# Altium integrated library Motorola Microprocessor 16-Bit.IntLib: 21 symbols
Pins are listed as number, name and electrical type; pins without a type are passive.

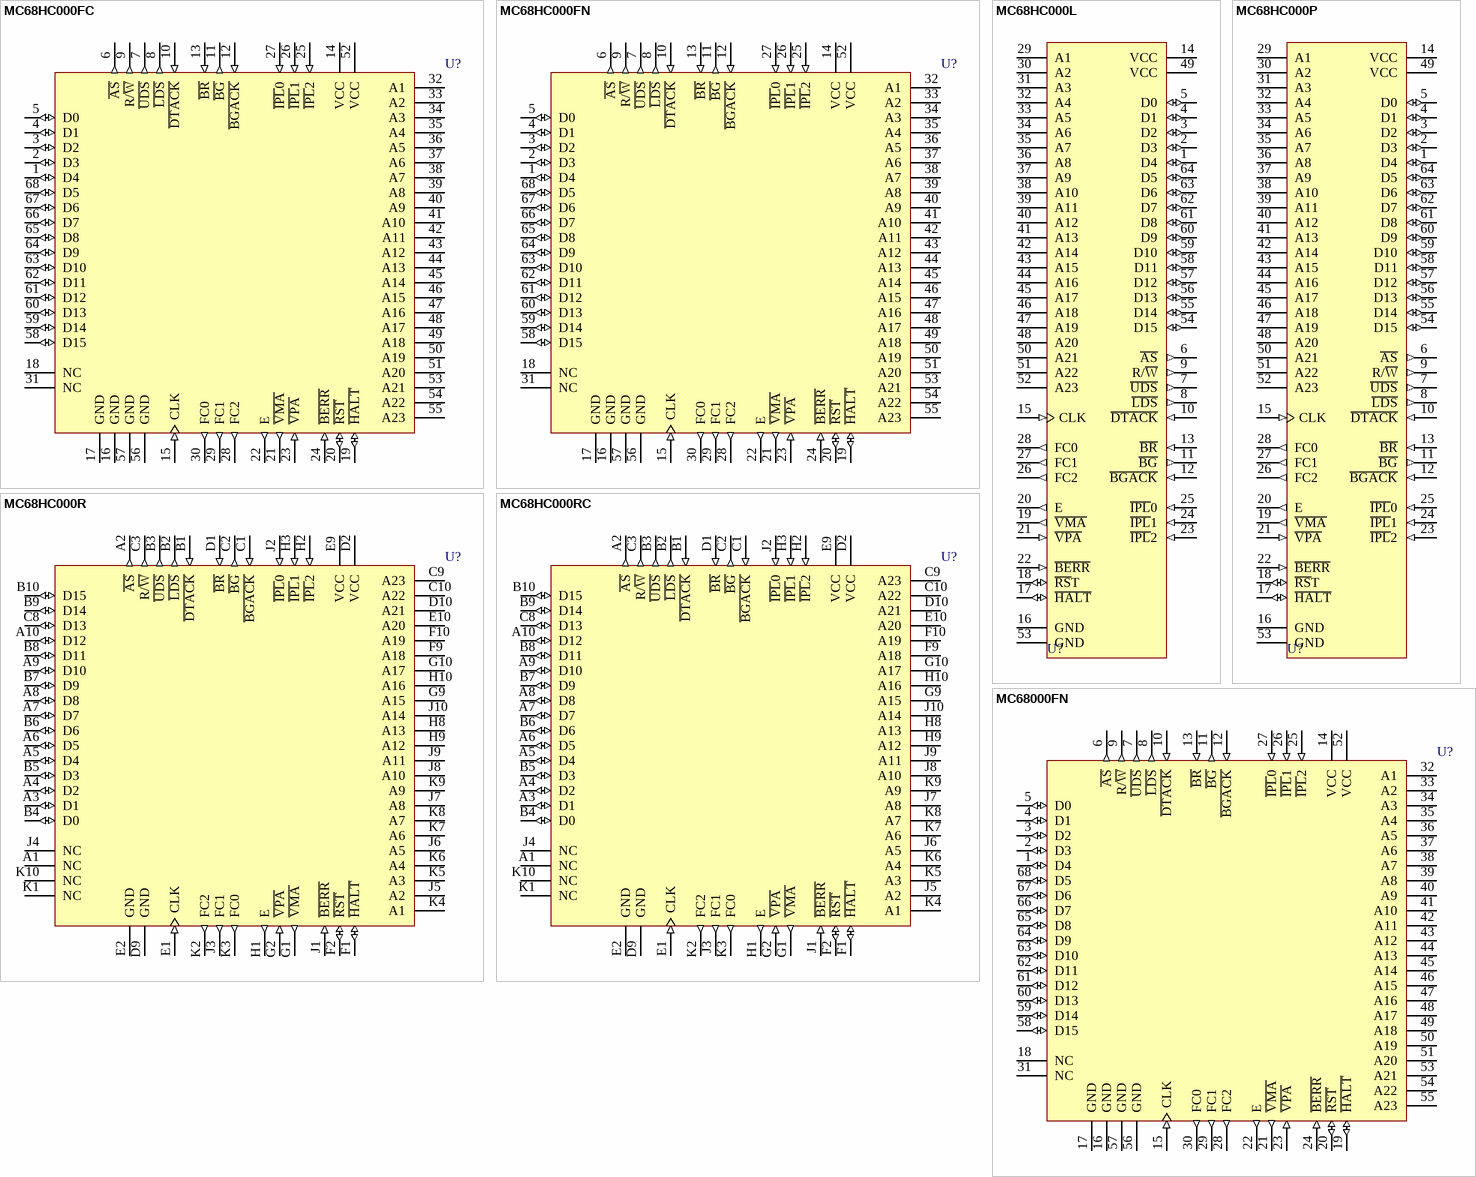
[diagram p0: symbols MC68HC000FC to MC68000FN]

## MC68HC000FC
designator U?
Low Power HCMOS 16-Bit/32-Bit Microprocessor; Published: 17-Jul-2002; DatasheetVersion: 1990; PackageReference: 847-01; Publisher: Altium Limited; PackageDescription: PQFP; 68 Leads; Body 14 x 14 mm; Pitch 0.635 mm
footprint 847-01 (PQFP; 68 Leads; Body 14 x 14 mm; Pitch 0.635 mm)
pins: 1 D4 (io), 2 D3 (io), 3 D2 (io), 4 D1 (io), 5 D0 (io), 6 ~{AS} (out), 7 ~{UDS} (out), 8 ~{LDS} (out), 9 R/~{W} (out), 10 ~{DTACK} (in), 11 ~{BG} (out), 12 ~{BGACK} (in), 13 ~{BR} (in), 14 VCC (power), 15 CLK (in), 16 GND (power), 17 GND (power), 18 NC, 19 ~{HALT} (io), 20 ~{RST} (io), 21 ~{VMA} (out), 22 E (out), 23 ~{VPA} (in), 24 ~{BERR} (in), 25 ~{IPL}2 (in), 26 ~{IPL}1 (in), 27 ~{IPL}0 (in), 28 FC2 (out), 29 FC1 (out), 30 FC0 (out), 31 NC, 32 A1 (hiz), 33 A2 (hiz), 34 A3 (hiz), 35 A4 (hiz), 36 A5 (hiz), 37 A6 (hiz), 38 A7 (hiz), 39 A8 (hiz), 40 A9 (hiz), 41 A10 (hiz), 42 A11 (hiz), 43 A12 (hiz), 44 A13 (hiz), 45 A14 (hiz), 46 A15 (hiz), 47 A16 (hiz), 48 A17 (hiz), 49 A18 (hiz), 50 A19 (hiz), 51 A20 (hiz), 52 VCC (power), 53 A21 (hiz), 54 A22 (hiz), 55 A23 (hiz), 56 GND (power), 57 GND (power), 58 D15 (io), 59 D14 (io), 60 D13 (io), 61 D12 (io), 62 D11 (io), 63 D10 (io), 64 D9 (io), 65 D8 (io), 66 D7 (io), 67 D6 (io), 68 D5 (io)

## MC68HC000FN
designator U?
Low Power HCMOS 16-Bit/32-Bit Microprocessor; Published: 17-Jul-2002; LatestRevisionDate: 13-Apr-2006; LatestRevisionNote: IPC-7351 Footprint Added.; DatasheetVersion: 1990; PackageVersion: 2001; PackageReference: 779-02; Publisher: Altium Limited; PackageDescription: 68-Pin Leaded Chip Carrier 1.27 mm Pitch
footprint 779-02_N (Leaded Chip Carrier, 68-Leads, Body 24.2x24.2mm, Pitch 1.27mm, IPC Medium Density)
footprint 779-02_L (Leaded Chip Carrier, 68-Leads, Body 24.2x24.2mm, Pitch 1.27mm, IPC High Density)
footprint 779-02_M (Leaded Chip Carrier, 68-Leads, Body 24.2x24.2mm, Pitch 1.27mm, IPC Low Density)
3D model MC68HC000-779-02 (68-Pin Leaded Chip Carrier 1.27 mm Pitch)
pins: 1 D4 (io), 2 D3 (io), 3 D2 (io), 4 D1 (io), 5 D0 (io), 6 ~{AS} (out), 7 ~{UDS} (out), 8 ~{LDS} (out), 9 R/~{W} (out), 10 ~{DTACK} (in), 11 ~{BG} (out), 12 ~{BGACK} (in), 13 ~{BR} (in), 14 VCC (power), 15 CLK (in), 16 GND (power), 17 GND (power), 18 NC, 19 ~{HALT} (io), 20 ~{RST} (io), 21 ~{VMA} (out), 22 E (out), 23 ~{VPA} (in), 24 ~{BERR} (in), 25 ~{IPL}2 (in), 26 ~{IPL}1 (in), 27 ~{IPL}0 (in), 28 FC2 (out), 29 FC1 (out), 30 FC0 (out), 31 NC, 32 A1 (hiz), 33 A2 (hiz), 34 A3 (hiz), 35 A4 (hiz), 36 A5 (hiz), 37 A6 (hiz), 38 A7 (hiz), 39 A8 (hiz), 40 A9 (hiz), 41 A10 (hiz), 42 A11 (hiz), 43 A12 (hiz), 44 A13 (hiz), 45 A14 (hiz), 46 A15 (hiz), 47 A16 (hiz), 48 A17 (hiz), 49 A18 (hiz), 50 A19 (hiz), 51 A20 (hiz), 52 VCC (power), 53 A21 (hiz), 54 A22 (hiz), 55 A23 (hiz), 56 GND (power), 57 GND (power), 58 D15 (io), 59 D14 (io), 60 D13 (io), 61 D12 (io), 62 D11 (io), 63 D10 (io), 64 D9 (io), 65 D8 (io), 66 D7 (io), 67 D6 (io), 68 D5 (io)

## MC68HC000L
designator U?
Low Power HCMOS 16-Bit/32-Bit Microprocessor; Published: 17-Jul-2002; LatestRevisionDate: 06-Jun-2005; LatestRevisionNote: Stylized 3D Model Added.; DatasheetVersion: 1990; PackageReference: 746-01; Publisher: Altium Limited; PackageDescription: DIP; 64 Leads; Row Spacing 22.86 mm; Pitch 2.54 mm
footprint 746-01 (DIP; 64 Leads; Row Spacing 22.86 mm; Pitch 2.54 mm)
3D model 746-01 (DIP; 64 Leads; Row Spacing 22.86 mm; Pitch 2.54 mm)
pins: 1 D4 (io), 2 D3 (io), 3 D2 (io), 4 D1 (io), 5 D0 (io), 6 ~{AS} (out), 7 ~{UDS} (out), 8 ~{LDS} (out), 9 R/~{W} (out), 10 ~{DTACK} (in), 11 ~{BG} (out), 12 ~{BGACK} (in), 13 ~{BR} (in), 14 VCC (power), 15 CLK (in), 16 GND (power), 17 ~{HALT} (io), 18 ~{RS}T (io), 19 ~{VMA} (out), 20 E (out), 21 ~{VPA} (in), 22 ~{BERR} (in), 23 ~{IPL}2 (in), 24 ~{IPL}1 (in), 25 ~{IPL}0 (in), 26 FC2 (out), 27 FC1 (out), 28 FC0 (out), 29 A1 (hiz), 30 A2 (hiz), 31 A3 (hiz), 32 A4 (hiz), 33 A5 (hiz), 34 A6 (hiz), 35 A7 (hiz), 36 A8 (hiz), 37 A9 (hiz), 38 A10 (hiz), 39 A11 (hiz), 40 A12 (hiz), 41 A13 (hiz), 42 A14 (hiz), 43 A15 (hiz), 44 A16 (hiz), 45 A17 (hiz), 46 A18 (hiz), 47 A19 (hiz), 48 A20 (hiz), 49 VCC (power), 50 A21 (hiz), 51 A22 (hiz), 52 A23 (hiz), 53 GND (power), 54 D15 (io), 55 D14 (io), 56 D13 (io), 57 D12 (io), 58 D11 (io), 59 D10 (io), 60 D9 (io), 61 D8 (io), 62 D7 (io), 63 D6 (io), 64 D5 (io)

## MC68HC000P
designator U?
Low Power HCMOS 16-Bit/32-Bit Microprocessor; Published: 17-Jul-2002; LatestRevisionDate: 06-Jun-2005; LatestRevisionNote: Stylized 3D Model Added.; DatasheetVersion: 1990; PackageReference: 754-01; Publisher: Altium Limited; PackageDescription: DIP; 64 Leads; Row Spacing 22.86 mm; Pitch 2.54 mm
footprint 754-01 (DIP; 64 Leads; Row Spacing 22.86 mm; Pitch 2.54 mm)
3D model 746-01 (DIP; 64 Leads; Row Spacing 22.86 mm; Pitch 2.54 mm)
pins: 1 D4 (io), 2 D3 (io), 3 D2 (io), 4 D1 (io), 5 D0 (io), 6 ~{AS} (out), 7 ~{UDS} (out), 8 ~{LDS} (out), 9 R/~{W} (out), 10 ~{DTACK} (in), 11 ~{BG} (out), 12 ~{BGACK} (in), 13 ~{BR} (in), 14 VCC (power), 15 CLK (in), 16 GND (power), 17 ~{HALT} (io), 18 ~{RS}T (io), 19 ~{VMA} (out), 20 E (out), 21 ~{VPA} (in), 22 ~{BERR} (in), 23 ~{IPL}2 (in), 24 ~{IPL}1 (in), 25 ~{IPL}0 (in), 26 FC2 (out), 27 FC1 (out), 28 FC0 (out), 29 A1 (hiz), 30 A2 (hiz), 31 A3 (hiz), 32 A4 (hiz), 33 A5 (hiz), 34 A6 (hiz), 35 A7 (hiz), 36 A8 (hiz), 37 A9 (hiz), 38 A10 (hiz), 39 A11 (hiz), 40 A12 (hiz), 41 A13 (hiz), 42 A14 (hiz), 43 A15 (hiz), 44 A16 (hiz), 45 A17 (hiz), 46 A18 (hiz), 47 A19 (hiz), 48 A20 (hiz), 49 VCC (power), 50 A21 (hiz), 51 A22 (hiz), 52 A23 (hiz), 53 GND (power), 54 D15 (io), 55 D14 (io), 56 D13 (io), 57 D12 (io), 58 D11 (io), 59 D10 (io), 60 D9 (io), 61 D8 (io), 62 D7 (io), 63 D6 (io), 64 D5 (io)

## MC68HC000R
designator U?
Low Power HCMOS 16-Bit/32-Bit Microprocessor; Published: 17-Jul-2002; LatestRevisionDate: 06-Jun-2005; LatestRevisionNote: Stylized 3D Model Added.; DatasheetVersion: 1990; PackageReference: 765A-05; Publisher: Altium Limited; PackageDescription: 68-Pin Pin Grid Array 2.54 mm Pitch
footprint 765A-05 (PGA, 68-Leads, Body 27x27mm, Pitch 2.54mm)
3D model MC68HC000-765A-05 (68-Pin Pin Grid Array 2.54 mm Pitch)
pins: A1 NC, A2 ~{AS} (out), A3 D1 (io), A4 D2 (io), A5 D4 (io), A6 D5 (io), A7 D7 (io), A8 D8 (io), A9 D10 (io), A10 D12 (io), B1 ~{DTACK} (in), B2 ~{LDS} (out), B3 ~{UDS} (out), B4 D0 (io), B5 D3 (io), B6 D6 (io), B7 D9 (io), B8 D11 (io), B9 D14 (io), B10 D15 (io), C1 ~{BGACK} (in), C2 ~{BG} (out), C3 R/~{W} (out), C8 D13 (io), C9 A23 (hiz), C10 A22 (hiz), D1 ~{BR} (in), D2 VCC (power), D9 GND (power), D10 A21 (hiz), E1 CLK (in), E2 GND (power), E9 VCC (power), E10 A20 (hiz), F1 ~{HALT} (io), F2 ~{RST} (io), F9 A18 (hiz), F10 A19 (hiz), G1 ~{VMA} (out), G2 ~{VPA} (in), G9 A15 (hiz), G10 A17 (hiz), H1 E (out), H2 ~{IPL}2 (in), H3 ~{IPL}1 (in), H8 A13 (hiz), H9 A12 (hiz), H10 A16 (hiz), J1 ~{BERR} (in), J2 ~{IPL}0 (in), J3 FC1 (out), J4 NC, J5 A2 (hiz), J6 A5 (hiz), J7 A8 (hiz), J8 A10 (hiz), J9 A11 (hiz), J10 A14 (hiz), K1 NC, K2 FC2 (out), K3 FC0 (out), K4 A1 (hiz), K5 A3 (hiz), K6 A4 (hiz), K7 A6 (hiz), K8 A7 (hiz), K9 A9 (hiz), K10 NC

## MC68HC000RC
designator U?
Low Power HCMOS 16-Bit/32-Bit Microprocessor; Published: 17-Jul-2002; LatestRevisionDate: 06-Jun-2005; LatestRevisionNote: Stylized 3D Model Added.; DatasheetVersion: 1990; PackageReference: 765A-05; Publisher: Altium Limited; PackageDescription: 68-Pin Pin Grid Array 2.54 mm Pitch
footprint 765A-05 (PGA, 68-Leads, Body 27x27mm, Pitch 2.54mm)
3D model MC68HC000-765A-05 (68-Pin Pin Grid Array 2.54 mm Pitch)
pins: A1 NC, A2 ~{AS} (out), A3 D1 (io), A4 D2 (io), A5 D4 (io), A6 D5 (io), A7 D7 (io), A8 D8 (io), A9 D10 (io), A10 D12 (io), B1 ~{DTACK} (in), B2 ~{LDS} (out), B3 ~{UDS} (out), B4 D0 (io), B5 D3 (io), B6 D6 (io), B7 D9 (io), B8 D11 (io), B9 D14 (io), B10 D15 (io), C1 ~{BGACK} (in), C2 ~{BG} (out), C3 R/~{W} (out), C8 D13 (io), C9 A23 (hiz), C10 A22 (hiz), D1 ~{BR} (in), D2 VCC (power), D9 GND (power), D10 A21 (hiz), E1 CLK (in), E2 GND (power), E9 VCC (power), E10 A20 (hiz), F1 ~{HALT} (io), F2 ~{RST} (io), F9 A18 (hiz), F10 A19 (hiz), G1 ~{VMA} (out), G2 ~{VPA} (in), G9 A15 (hiz), G10 A17 (hiz), H1 E (out), H2 ~{IPL}2 (in), H3 ~{IPL}1 (in), H8 A13 (hiz), H9 A12 (hiz), H10 A16 (hiz), J1 ~{BERR} (in), J2 ~{IPL}0 (in), J3 FC1 (out), J4 NC, J5 A2 (hiz), J6 A5 (hiz), J7 A8 (hiz), J8 A10 (hiz), J9 A11 (hiz), J10 A14 (hiz), K1 NC, K2 FC2 (out), K3 FC0 (out), K4 A1 (hiz), K5 A3 (hiz), K6 A4 (hiz), K7 A6 (hiz), K8 A7 (hiz), K9 A9 (hiz), K10 NC

## MC68000FN
designator U?
16-Bit/32-Bit Microprocessor; Published: 17-Jul-2002; LatestRevisionDate: 13-Apr-2006; LatestRevisionNote: IPC-7351 Footprint Added.; DatasheetVersion: 1990; PackageVersion: 2001; PackageReference: 779-02; Publisher: Altium Limited; PackageDescription: 68-Pin Leaded Chip Carrier 1.27 mm Pitch
footprint 779-02_N (Leaded Chip Carrier, 68-Leads, Body 24.2x24.2mm, Pitch 1.27mm, IPC Medium Density)
footprint 779-02_L (Leaded Chip Carrier, 68-Leads, Body 24.2x24.2mm, Pitch 1.27mm, IPC High Density)
footprint 779-02_M (Leaded Chip Carrier, 68-Leads, Body 24.2x24.2mm, Pitch 1.27mm, IPC Low Density)
3D model MC68000-779-02 (68-Pin Leaded Chip Carrier 1.27 mm Pitch)
pins: 1 D4 (io), 2 D3 (io), 3 D2 (io), 4 D1 (io), 5 D0 (io), 6 ~{AS} (out), 7 ~{UDS} (out), 8 ~{LDS} (out), 9 R/~{W} (out), 10 ~{DTACK} (in), 11 ~{BG} (out), 12 ~{BGACK} (in), 13 ~{BR} (in), 14 VCC (power), 15 CLK (in), 16 GND (power), 17 GND (power), 18 NC, 19 ~{HALT} (io), 20 ~{RST} (io), 21 ~{VMA} (out), 22 E (out), 23 ~{VPA} (in), 24 ~{BERR} (in), 25 ~{IPL}2 (in), 26 ~{IPL}1 (in), 27 ~{IPL}0 (in), 28 FC2 (out), 29 FC1 (out), 30 FC0 (out), 31 NC, 32 A1 (hiz), 33 A2 (hiz), 34 A3 (hiz), 35 A4 (hiz), 36 A5 (hiz), 37 A6 (hiz), 38 A7 (hiz), 39 A8 (hiz), 40 A9 (hiz), 41 A10 (hiz), 42 A11 (hiz), 43 A12 (hiz), 44 A13 (hiz), 45 A14 (hiz), 46 A15 (hiz), 47 A16 (hiz), 48 A17 (hiz), 49 A18 (hiz), 50 A19 (hiz), 51 A20 (hiz), 52 VCC (power), 53 A21 (hiz), 54 A22 (hiz), 55 A23 (hiz), 56 GND (power), 57 GND (power), 58 D15 (io), 59 D14 (io), 60 D13 (io), 61 D12 (io), 62 D11 (io), 63 D10 (io), 64 D9 (io), 65 D8 (io), 66 D7 (io), 67 D6 (io), 68 D5 (io)

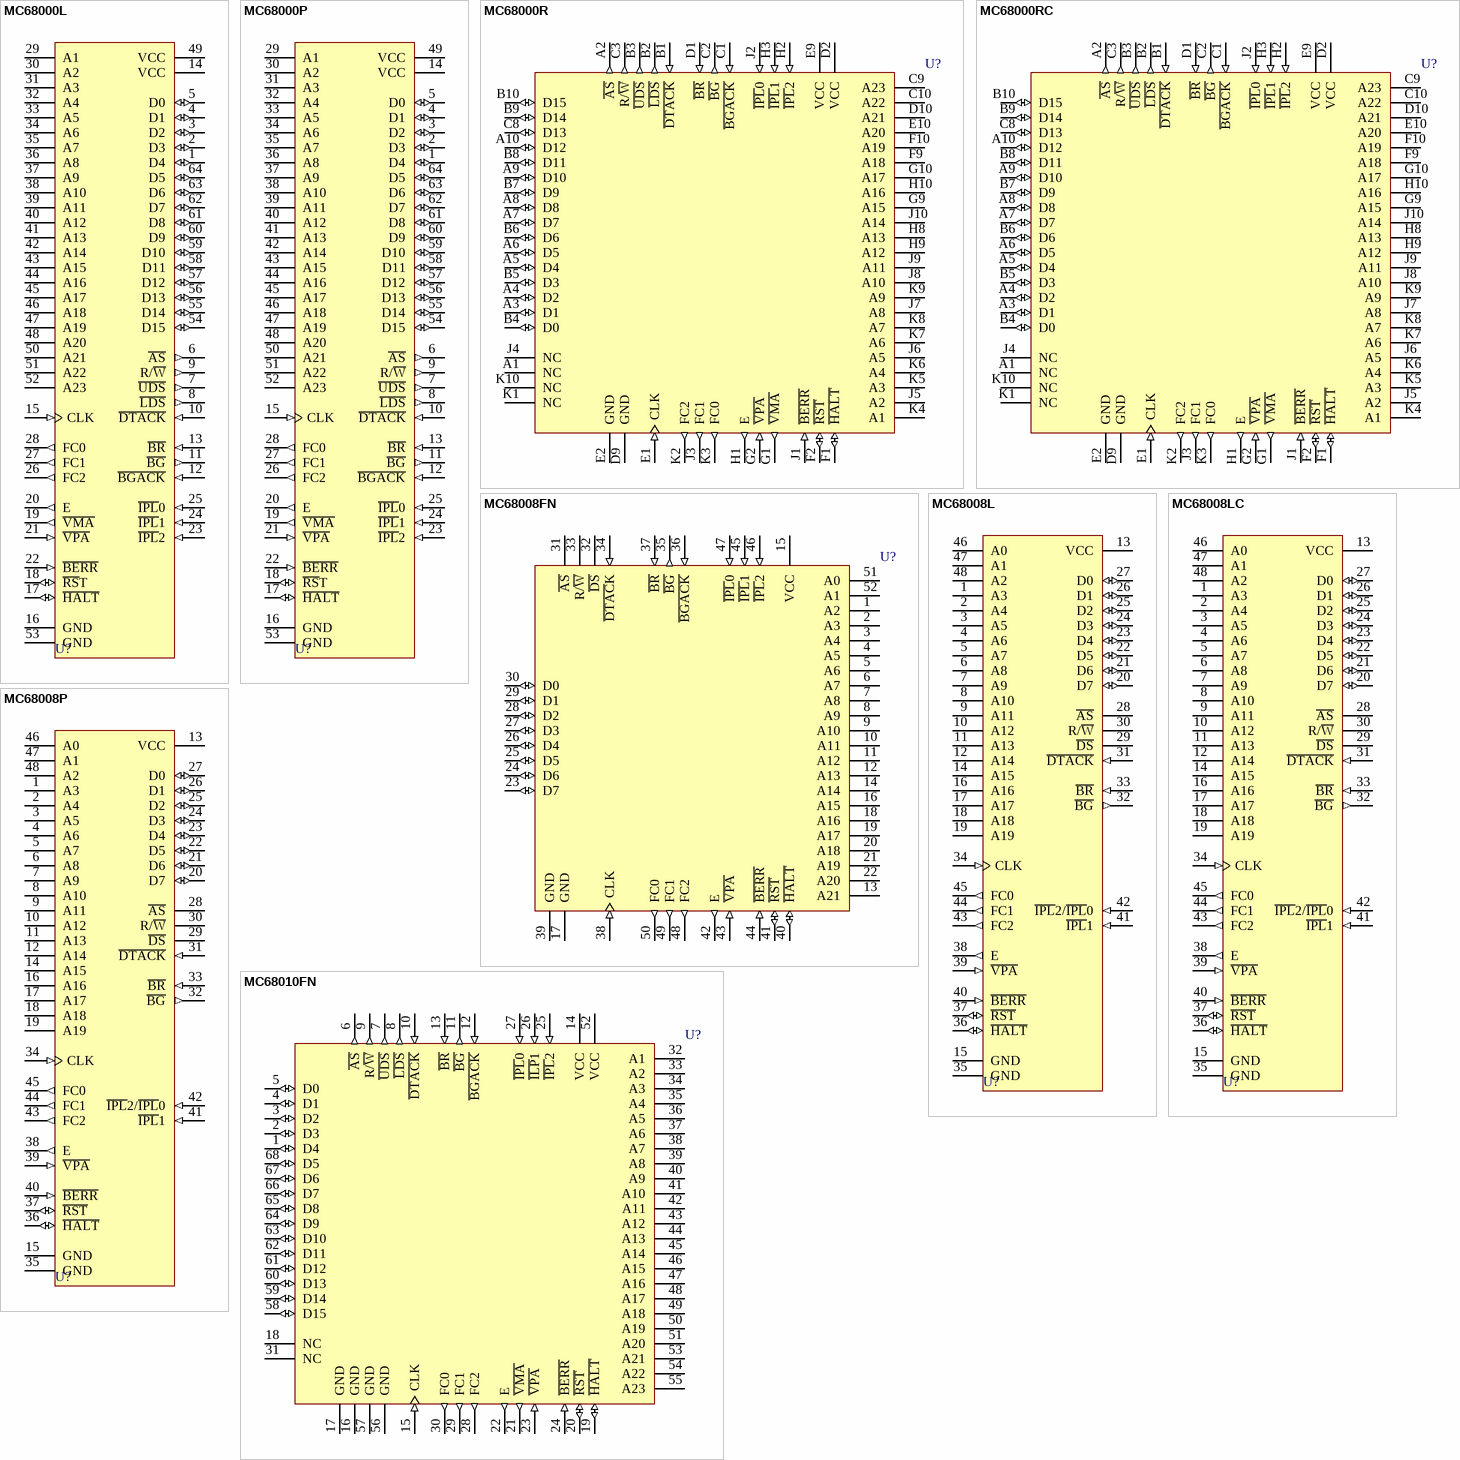
[diagram p1: symbols MC68000L to MC68010FN]

## MC68000L
designator U?
16-Bit/32-Bit Microprocessor; Published: 17-Jul-2002; LatestRevisionDate: 06-Jun-2005; LatestRevisionNote: Stylized 3D Model Added.; DatasheetVersion: 1990; PackageReference: 746-01; Publisher: Altium Limited; PackageDescription: DIP; 64 Leads; Row Spacing 22.86 mm; Pitch 2.54 mm
footprint 746-01 (DIP; 64 Leads; Row Spacing 22.86 mm; Pitch 2.54 mm)
3D model 746-01 (DIP; 64 Leads; Row Spacing 22.86 mm; Pitch 2.54 mm)
pins: 1 D4 (io), 2 D3 (io), 3 D2 (io), 4 D1 (io), 5 D0 (io), 6 ~{AS} (out), 7 ~{UDS} (out), 8 ~{LDS} (out), 9 R/~{W} (out), 10 ~{DTACK} (in), 11 ~{BG} (out), 12 ~{BGACK} (in), 13 ~{BR} (in), 14 VCC (power), 15 CLK (in), 16 GND (power), 17 ~{HALT} (io), 18 ~{RS}T (io), 19 ~{VMA} (out), 20 E (out), 21 ~{VPA} (in), 22 ~{BERR} (in), 23 ~{IPL}2 (in), 24 ~{IPL}1 (in), 25 ~{IPL}0 (in), 26 FC2 (out), 27 FC1 (out), 28 FC0 (out), 29 A1 (hiz), 30 A2 (hiz), 31 A3 (hiz), 32 A4 (hiz), 33 A5 (hiz), 34 A6 (hiz), 35 A7 (hiz), 36 A8 (hiz), 37 A9 (hiz), 38 A10 (hiz), 39 A11 (hiz), 40 A12 (hiz), 41 A13 (hiz), 42 A14 (hiz), 43 A15 (hiz), 44 A16 (hiz), 45 A17 (hiz), 46 A18 (hiz), 47 A19 (hiz), 48 A20 (hiz), 49 VCC (power), 50 A21 (hiz), 51 A22 (hiz), 52 A23 (hiz), 53 GND (power), 54 D15 (io), 55 D14 (io), 56 D13 (io), 57 D12 (io), 58 D11 (io), 59 D10 (io), 60 D9 (io), 61 D8 (io), 62 D7 (io), 63 D6 (io), 64 D5 (io)

## MC68000P
designator U?
16-Bit/32-Bit Microprocessor; Published: 17-Jul-2002; LatestRevisionDate: 06-Jun-2005; LatestRevisionNote: Stylized 3D Model Added.; DatasheetVersion: 1990; PackageReference: 754-01; Publisher: Altium Limited; PackageDescription: DIP; 64 Leads; Row Spacing 22.86 mm; Pitch 2.54 mm
footprint 754-01 (DIP; 64 Leads; Row Spacing 22.86 mm; Pitch 2.54 mm)
3D model 746-01 (DIP; 64 Leads; Row Spacing 22.86 mm; Pitch 2.54 mm)
pins: 1 D4 (io), 2 D3 (io), 3 D2 (io), 4 D1 (io), 5 D0 (io), 6 ~{AS} (out), 7 ~{UDS} (out), 8 ~{LDS} (out), 9 R/~{W} (out), 10 ~{DTACK} (in), 11 ~{BG} (out), 12 ~{BGACK} (in), 13 ~{BR} (in), 14 VCC (power), 15 CLK (in), 16 GND (power), 17 ~{HALT} (io), 18 ~{RS}T (io), 19 ~{VMA} (out), 20 E (out), 21 ~{VPA} (in), 22 ~{BERR} (in), 23 ~{IPL}2 (in), 24 ~{IPL}1 (in), 25 ~{IPL}0 (in), 26 FC2 (out), 27 FC1 (out), 28 FC0 (out), 29 A1 (hiz), 30 A2 (hiz), 31 A3 (hiz), 32 A4 (hiz), 33 A5 (hiz), 34 A6 (hiz), 35 A7 (hiz), 36 A8 (hiz), 37 A9 (hiz), 38 A10 (hiz), 39 A11 (hiz), 40 A12 (hiz), 41 A13 (hiz), 42 A14 (hiz), 43 A15 (hiz), 44 A16 (hiz), 45 A17 (hiz), 46 A18 (hiz), 47 A19 (hiz), 48 A20 (hiz), 49 VCC (power), 50 A21 (hiz), 51 A22 (hiz), 52 A23 (hiz), 53 GND (power), 54 D15 (io), 55 D14 (io), 56 D13 (io), 57 D12 (io), 58 D11 (io), 59 D10 (io), 60 D9 (io), 61 D8 (io), 62 D7 (io), 63 D6 (io), 64 D5 (io)

## MC68000R
designator U?
16-Bit/32-Bit Microprocessor; Published: 17-Jul-2002; LatestRevisionDate: 06-Jun-2005; LatestRevisionNote: Stylized 3D Model Added.; DatasheetVersion: 1990; PackageReference: 765A-05; Publisher: Altium Limited; PackageDescription: 68-Pin Pin Grid Array 2.54 mm Pitch
footprint 765A-05 (PGA, 68-Leads, Body 27x27mm, Pitch 2.54mm)
3D model MC68000-765A-05 (68-Pin Pin Grid Array 2.54 mm Pitch)
pins: A1 NC, A2 ~{AS} (out), A3 D1 (io), A4 D2 (io), A5 D4 (io), A6 D5 (io), A7 D7 (io), A8 D8 (io), A9 D10 (io), A10 D12 (io), B1 ~{DTACK} (in), B2 ~{LDS} (out), B3 ~{UDS} (out), B4 D0 (io), B5 D3 (io), B6 D6 (io), B7 D9 (io), B8 D11 (io), B9 D14 (io), B10 D15 (io), C1 ~{BGACK} (in), C2 ~{BG} (out), C3 R/~{W} (out), C8 D13 (io), C9 A23 (hiz), C10 A22 (hiz), D1 ~{BR} (in), D2 VCC (power), D9 GND (power), D10 A21 (hiz), E1 CLK (in), E2 GND (power), E9 VCC (power), E10 A20 (hiz), F1 ~{HALT} (io), F2 ~{RST} (io), F9 A18 (hiz), F10 A19 (hiz), G1 ~{VMA} (out), G2 ~{VPA} (in), G9 A15 (hiz), G10 A17 (hiz), H1 E (out), H2 ~{IPL}2 (in), H3 ~{IPL}1 (in), H8 A13 (hiz), H9 A12 (hiz), H10 A16 (hiz), J1 ~{BERR} (in), J2 ~{IPL}0 (in), J3 FC1 (out), J4 NC, J5 A2 (hiz), J6 A5 (hiz), J7 A8 (hiz), J8 A10 (hiz), J9 A11 (hiz), J10 A14 (hiz), K1 NC, K2 FC2 (out), K3 FC0 (out), K4 A1 (hiz), K5 A3 (hiz), K6 A4 (hiz), K7 A6 (hiz), K8 A7 (hiz), K9 A9 (hiz), K10 NC

## MC68000RC
designator U?
16-Bit/32-Bit Microprocessor; Published: 17-Jul-2002; LatestRevisionDate: 06-Jun-2005; LatestRevisionNote: Stylized 3D Model Added.; DatasheetVersion: 1990; PackageReference: 765A-05; Publisher: Altium Limited; PackageDescription: 68-Pin Pin Grid Array 2.54 mm Pitch
footprint 765A-05 (PGA, 68-Leads, Body 27x27mm, Pitch 2.54mm)
3D model MC68000-765A-05 (68-Pin Pin Grid Array 2.54 mm Pitch)
pins: A1 NC, A2 ~{AS} (out), A3 D1 (io), A4 D2 (io), A5 D4 (io), A6 D5 (io), A7 D7 (io), A8 D8 (io), A9 D10 (io), A10 D12 (io), B1 ~{DTACK} (in), B2 ~{LDS} (out), B3 ~{UDS} (out), B4 D0 (io), B5 D3 (io), B6 D6 (io), B7 D9 (io), B8 D11 (io), B9 D14 (io), B10 D15 (io), C1 ~{BGACK} (in), C2 ~{BG} (out), C3 R/~{W} (out), C8 D13 (io), C9 A23 (hiz), C10 A22 (hiz), D1 ~{BR} (in), D2 VCC (power), D9 GND (power), D10 A21 (hiz), E1 CLK (in), E2 GND (power), E9 VCC (power), E10 A20 (hiz), F1 ~{HALT} (io), F2 ~{RST} (io), F9 A18 (hiz), F10 A19 (hiz), G1 ~{VMA} (out), G2 ~{VPA} (in), G9 A15 (hiz), G10 A17 (hiz), H1 E (out), H2 ~{IPL}2 (in), H3 ~{IPL}1 (in), H8 A13 (hiz), H9 A12 (hiz), H10 A16 (hiz), J1 ~{BERR} (in), J2 ~{IPL}0 (in), J3 FC1 (out), J4 NC, J5 A2 (hiz), J6 A5 (hiz), J7 A8 (hiz), J8 A10 (hiz), J9 A11 (hiz), J10 A14 (hiz), K1 NC, K2 FC2 (out), K3 FC0 (out), K4 A1 (hiz), K5 A3 (hiz), K6 A4 (hiz), K7 A6 (hiz), K8 A7 (hiz), K9 A9 (hiz), K10 NC

## MC68008FN
designator U?
16-Bit Microprocessor with 8-Bit Data Bus; Published: 17-Jul-2002; LatestRevisionDate: 13-Apr-2006; LatestRevisionNote: IPC-7351 Footprint Added.; DatasheetVersion: 1990; PackageVersion: rev3, 1997; PackageReference: 778-02; Publisher: Altium Limited; PackageDescription: 52-Pin Plastic Leaded Chip Carrier 1.27 mm Pitch
footprint 778-02_N (Leaded Chip Carrier, 52-Leads, Body 19x19mm, Pitch 1.27mm, IPC Medium Density)
footprint 778-02_L (Leaded Chip Carrier, 52-Leads, Body 19x19mm, Pitch 1.27mm, IPC High Density)
footprint 778-02_M (Leaded Chip Carrier, 52-Leads, Body 19x19mm, Pitch 1.27mm, IPC Low Density)
3D model MC68008-778-02 (52-Pin Plastic Leaded Chip Carrier 1.27 mm Pitch)
pins: 1 A2 (hiz), 2 A3 (hiz), 3 A4 (hiz), 4 A5 (hiz), 5 A6 (hiz), 6 A7 (hiz), 7 A8 (hiz), 8 A9 (hiz), 9 A10 (hiz), 10 A11 (hiz), 11 A12 (hiz), 12 A13 (hiz), 13 A21 (hiz), 14 A14 (hiz), 15 VCC (power), 16 A15 (hiz), 17 GND (power), 18 A16 (hiz), 19 A17 (hiz), 20 A18 (hiz), 21 A19 (hiz), 22 A20 (hiz), 23 D7 (io), 24 D6 (io), 25 D5 (io), 26 D4 (io), 27 D3 (io), 28 D2 (io), 29 D1 (io), 30 D0 (io), 31 ~{AS} (hiz), 32 ~{DS} (hiz), 33 R/~{W} (hiz), 34 ~{DTAC}K (in), 35 ~{BG} (out), 36 ~{BGACK} (in), 37 ~{BR} (in), 38 CLK (in), 39 GND (power), 40 ~{HALT} (io), 41 ~{RST} (io), 42 E (out), 43 ~{VPA} (in), 44 ~{BERR} (in), 45 ~{IPL}1 (in), 46 ~{IPL}2 (in), 47 ~{IPL}0 (in), 48 FC2 (out), 49 FC1 (out), 50 FC0 (out), 51 A0 (hiz), 52 A1 (hiz)

## MC68008L
designator U?
16-Bit Microprocessor with 8-Bit Data Bus; Published: 17-Jul-2002; LatestRevisionDate: 06-Jun-2005; LatestRevisionNote: Stylized 3D Model Added.; DatasheetVersion: 1990; PackageReference: 740-03; Publisher: Altium Limited; PackageDescription: DIP; 48 Leads; Row Spacing 15.24 mm; Pitch 2.54 mm
footprint 740-03 (DIP; 48 Leads; Row Spacing 15.24 mm; Pitch 2.54 mm)
3D model 740-03 (DIP; 48 Leads; Row Spacing 15.24 mm; Pitch 2.54 mm)
pins: 1 A3 (hiz), 2 A4 (hiz), 3 A5 (hiz), 4 A6 (hiz), 5 A7 (hiz), 6 A8 (hiz), 7 A9 (hiz), 8 A10 (hiz), 9 A11 (hiz), 10 A12 (hiz), 11 A13 (hiz), 12 A14 (hiz), 13 VCC (power), 14 A15 (hiz), 15 GND (power), 16 A16 (hiz), 17 A17 (hiz), 18 A18 (hiz), 19 A19 (hiz), 20 D7 (io), 21 D6 (io), 22 D5 (io), 23 D4 (io), 24 D3 (io), 25 D2 (io), 26 D1 (io), 27 D0 (io), 28 ~{AS} (hiz), 29 ~{DS} (hiz), 30 R/~{W} (hiz), 31 ~{DTACK} (in), 32 ~{BG} (out), 33 ~{BR} (in), 34 CLK (in), 35 GND (power), 36 ~{HALT} (io), 37 ~{RST} (io), 38 E (out), 39 ~{VPA} (in), 40 ~{BERR} (in), 41 ~{IPL}1 (in), 42 ~{IPL}2/~{IPL}0 (in), 43 FC2 (out), 44 FC1 (out), 45 FC0 (out), 46 A0 (hiz), 47 A1 (hiz), 48 A2 (hiz)

## MC68008LC
designator U?
16-Bit Microprocessor with 8-Bit Data Bus; Published: 17-Jul-2002; LatestRevisionDate: 06-Jun-2005; LatestRevisionNote: Stylized 3D Model Added.; DatasheetVersion: 1990; PackageReference: 740-03; Publisher: Altium Limited; PackageDescription: DIP; 48 Leads; Row Spacing 15.24 mm; Pitch 2.54 mm
footprint 740-03 (DIP; 48 Leads; Row Spacing 15.24 mm; Pitch 2.54 mm)
3D model 740-03 (DIP; 48 Leads; Row Spacing 15.24 mm; Pitch 2.54 mm)
pins: 1 A3 (hiz), 2 A4 (hiz), 3 A5 (hiz), 4 A6 (hiz), 5 A7 (hiz), 6 A8 (hiz), 7 A9 (hiz), 8 A10 (hiz), 9 A11 (hiz), 10 A12 (hiz), 11 A13 (hiz), 12 A14 (hiz), 13 VCC (power), 14 A15 (hiz), 15 GND (power), 16 A16 (hiz), 17 A17 (hiz), 18 A18 (hiz), 19 A19 (hiz), 20 D7 (io), 21 D6 (io), 22 D5 (io), 23 D4 (io), 24 D3 (io), 25 D2 (io), 26 D1 (io), 27 D0 (io), 28 ~{AS} (hiz), 29 ~{DS} (hiz), 30 R/~{W} (hiz), 31 ~{DTACK} (in), 32 ~{BG} (out), 33 ~{BR} (in), 34 CLK (in), 35 GND (power), 36 ~{HALT} (io), 37 ~{RST} (io), 38 E (out), 39 ~{VPA} (in), 40 ~{BERR} (in), 41 ~{IPL}1 (in), 42 ~{IPL}2/~{IPL}0 (in), 43 FC2 (out), 44 FC1 (out), 45 FC0 (out), 46 A0 (hiz), 47 A1 (hiz), 48 A2 (hiz)

## MC68008P
designator U?
16-Bit Microprocessor with 8-Bit Data Bus; Published: 17-Jul-2002; LatestRevisionDate: 06-Jun-2005; LatestRevisionNote: Stylized 3D Model Added.; DatasheetVersion: 1990; PackageReference: 767-02; Publisher: Altium Limited; PackageDescription: DIP; 48 Leads; Row Spacing 15.24 mm; Pitch 2.54 mm
footprint 767-02 (DIP; 48 Leads; Row Spacing 15.24 mm; Pitch 2.54 mm)
3D model 740-03 (DIP; 48 Leads; Row Spacing 15.24 mm; Pitch 2.54 mm)
pins: 1 A3 (hiz), 2 A4 (hiz), 3 A5 (hiz), 4 A6 (hiz), 5 A7 (hiz), 6 A8 (hiz), 7 A9 (hiz), 8 A10 (hiz), 9 A11 (hiz), 10 A12 (hiz), 11 A13 (hiz), 12 A14 (hiz), 13 VCC (power), 14 A15 (hiz), 15 GND (power), 16 A16 (hiz), 17 A17 (hiz), 18 A18 (hiz), 19 A19 (hiz), 20 D7 (io), 21 D6 (io), 22 D5 (io), 23 D4 (io), 24 D3 (io), 25 D2 (io), 26 D1 (io), 27 D0 (io), 28 ~{AS} (hiz), 29 ~{DS} (hiz), 30 R/~{W} (hiz), 31 ~{DTACK} (in), 32 ~{BG} (out), 33 ~{BR} (in), 34 CLK (in), 35 GND (power), 36 ~{HALT} (io), 37 ~{RST} (io), 38 E (out), 39 ~{VPA} (in), 40 ~{BERR} (in), 41 ~{IPL}1 (in), 42 ~{IPL}2/~{IPL}0 (in), 43 FC2 (out), 44 FC1 (out), 45 FC0 (out), 46 A0 (hiz), 47 A1 (hiz), 48 A2 (hiz)

## MC68010FN
designator U?
16-Bit/32-Bit Virtual Memory Microprocessor; Published: 17-Jul-2002; LatestRevisionDate: 13-Apr-2006; LatestRevisionNote: IPC-7351 Footprint Added.; DatasheetVersion: 1990; PackageVersion: 2001; PackageReference: 779-02; Publisher: Altium Limited; PackageDescription: 68-Pin Leaded Chip Carrier 1.27 mm Pitch
footprint 779-02_N (Leaded Chip Carrier, 68-Leads, Body 24.2x24.2mm, Pitch 1.27mm, IPC Medium Density)
footprint 779-02_L (Leaded Chip Carrier, 68-Leads, Body 24.2x24.2mm, Pitch 1.27mm, IPC High Density)
footprint 779-02_M (Leaded Chip Carrier, 68-Leads, Body 24.2x24.2mm, Pitch 1.27mm, IPC Low Density)
3D model MC68010-779-02 (68-Pin Leaded Chip Carrier 1.27 mm Pitch)
pins: 1 D4 (io), 2 D3 (io), 3 D2 (io), 4 D1 (io), 5 D0 (io), 6 ~{AS} (out), 7 ~{UDS} (out), 8 ~{LDS} (out), 9 R/~{W} (out), 10 ~{DTACK} (in), 11 ~{BG} (out), 12 ~{BGACK} (in), 13 ~{BR} (in), 14 VCC (power), 15 CLK (in), 16 GND (power), 17 GND (power), 18 NC, 19 ~{HALT} (io), 20 ~{RST} (io), 21 ~{VMA} (out), 22 E (out), 23 ~{VPA} (in), 24 ~{BERR} (in), 25 ~{IPL}2 (in), 26 ~{ILP}1 (in), 27 ~{IPL}0 (in), 28 FC2 (out), 29 FC1 (out), 30 FC0 (out), 31 NC, 32 A1 (hiz), 33 A2 (hiz), 34 A3 (hiz), 35 A4 (hiz), 36 A5 (hiz), 37 A6 (hiz), 38 A7 (hiz), 39 A8 (hiz), 40 A9 (hiz), 41 A10 (hiz), 42 A11 (hiz), 43 A12 (hiz), 44 A13 (hiz), 45 A14 (hiz), 46 A15 (hiz), 47 A16 (hiz), 48 A17 (hiz), 49 A18 (hiz), 50 A19 (hiz), 51 A20 (hiz), 52 VCC (power), 53 A21 (hiz), 54 A22 (hiz), 55 A23 (hiz), 56 GND (power), 57 GND (power), 58 D15 (io), 59 D14 (io), 60 D13 (io), 61 D12 (io), 62 D11 (io), 63 D10 (io), 64 D9 (io), 65 D8 (io), 66 D7 (io), 67 D6 (io), 68 D5 (io)

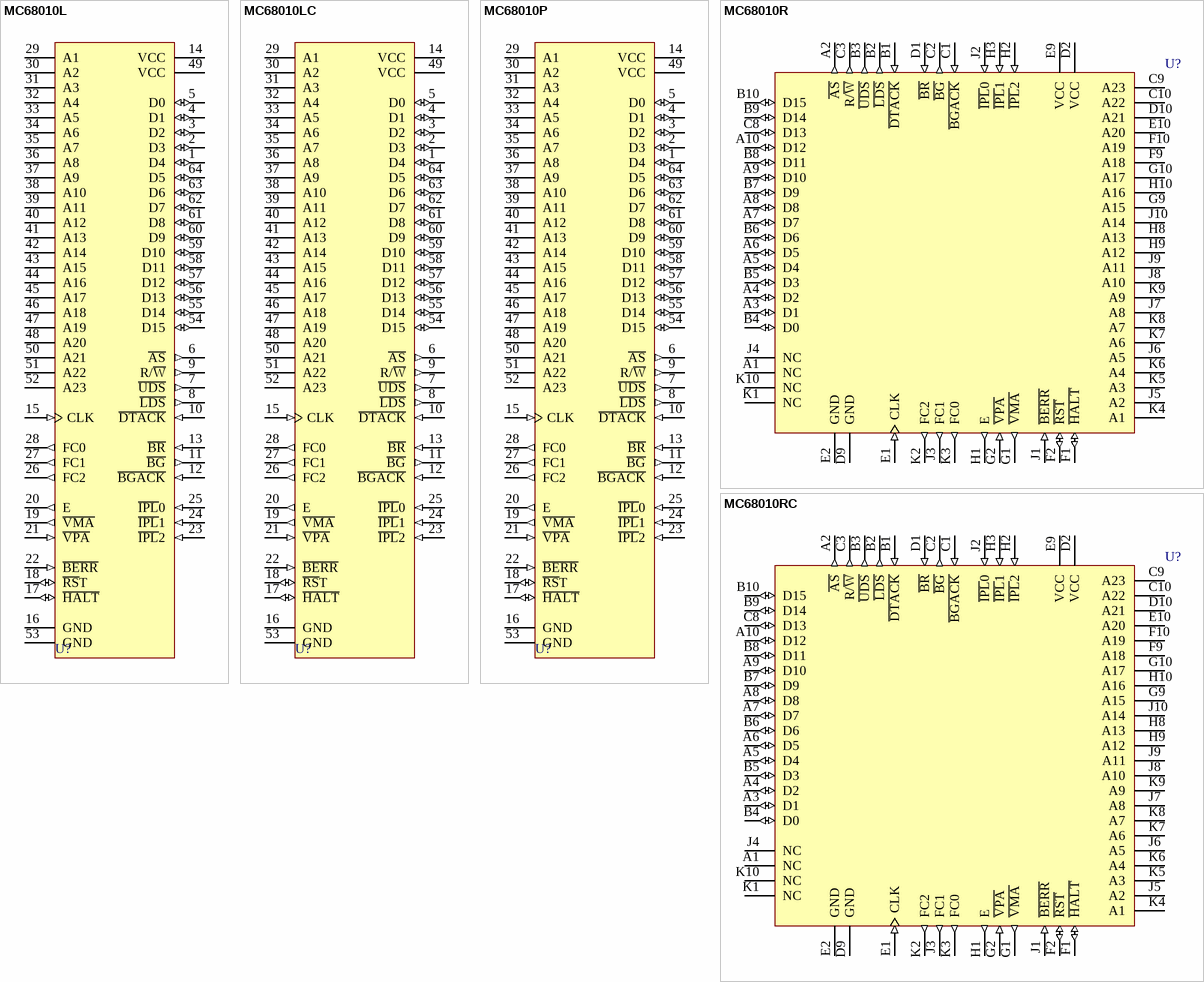
[diagram p2: symbols MC68010L to MC68010RC]

## MC68010L
designator U?
16-Bit/32-Bit Virtual Memory Microprocessor; Published: 17-Jul-2002; LatestRevisionDate: 06-Jun-2005; LatestRevisionNote: Stylized 3D Model Added.; DatasheetVersion: 1990; PackageReference: 746-01; Publisher: Altium Limited; PackageDescription: DIP; 64 Leads; Row Spacing 22.86 mm; Pitch 2.54 mm
footprint 746-01 (DIP; 64 Leads; Row Spacing 22.86 mm; Pitch 2.54 mm)
3D model 746-01 (DIP; 64 Leads; Row Spacing 22.86 mm; Pitch 2.54 mm)
pins: 1 D4 (io), 2 D3 (io), 3 D2 (io), 4 D1 (io), 5 D0 (io), 6 ~{AS} (out), 7 ~{UDS} (out), 8 ~{LDS} (out), 9 R/~{W} (out), 10 ~{DTACK} (in), 11 ~{BG} (out), 12 ~{BGACK} (in), 13 ~{BR} (in), 14 VCC (power), 15 CLK (in), 16 GND (power), 17 ~{HALT} (io), 18 ~{RS}T (io), 19 ~{VMA} (out), 20 E (out), 21 ~{VPA} (in), 22 ~{BERR} (in), 23 ~{IPL}2 (in), 24 ~{IPL}1 (in), 25 ~{IPL}0 (in), 26 FC2 (out), 27 FC1 (out), 28 FC0 (out), 29 A1 (hiz), 30 A2 (hiz), 31 A3 (hiz), 32 A4 (hiz), 33 A5 (hiz), 34 A6 (hiz), 35 A7 (hiz), 36 A8 (hiz), 37 A9 (hiz), 38 A10 (hiz), 39 A11 (hiz), 40 A12 (hiz), 41 A13 (hiz), 42 A14 (hiz), 43 A15 (hiz), 44 A16 (hiz), 45 A17 (hiz), 46 A18 (hiz), 47 A19 (hiz), 48 A20 (hiz), 49 VCC (power), 50 A21 (hiz), 51 A22 (hiz), 52 A23 (hiz), 53 GND (power), 54 D15 (io), 55 D14 (io), 56 D13 (io), 57 D12 (io), 58 D11 (io), 59 D10 (io), 60 D9 (io), 61 D8 (io), 62 D7 (io), 63 D6 (io), 64 D5 (io)

## MC68010LC
designator U?
16-Bit/32-Bit Virtual Memory Microprocessor; Published: 17-Jul-2002; LatestRevisionDate: 06-Jun-2005; LatestRevisionNote: Stylized 3D Model Added.; DatasheetVersion: 1990; PackageReference: 746-01; Publisher: Altium Limited; PackageDescription: DIP; 64 Leads; Row Spacing 22.86 mm; Pitch 2.54 mm
footprint 746-01 (DIP; 64 Leads; Row Spacing 22.86 mm; Pitch 2.54 mm)
3D model 746-01 (DIP; 64 Leads; Row Spacing 22.86 mm; Pitch 2.54 mm)
pins: 1 D4 (io), 2 D3 (io), 3 D2 (io), 4 D1 (io), 5 D0 (io), 6 ~{AS} (out), 7 ~{UDS} (out), 8 ~{LDS} (out), 9 R/~{W} (out), 10 ~{DTACK} (in), 11 ~{BG} (out), 12 ~{BGACK} (in), 13 ~{BR} (in), 14 VCC (power), 15 CLK (in), 16 GND (power), 17 ~{HALT} (io), 18 ~{RS}T (io), 19 ~{VMA} (out), 20 E (out), 21 ~{VPA} (in), 22 ~{BERR} (in), 23 ~{IPL}2 (in), 24 ~{IPL}1 (in), 25 ~{IPL}0 (in), 26 FC2 (out), 27 FC1 (out), 28 FC0 (out), 29 A1 (hiz), 30 A2 (hiz), 31 A3 (hiz), 32 A4 (hiz), 33 A5 (hiz), 34 A6 (hiz), 35 A7 (hiz), 36 A8 (hiz), 37 A9 (hiz), 38 A10 (hiz), 39 A11 (hiz), 40 A12 (hiz), 41 A13 (hiz), 42 A14 (hiz), 43 A15 (hiz), 44 A16 (hiz), 45 A17 (hiz), 46 A18 (hiz), 47 A19 (hiz), 48 A20 (hiz), 49 VCC (power), 50 A21 (hiz), 51 A22 (hiz), 52 A23 (hiz), 53 GND (power), 54 D15 (io), 55 D14 (io), 56 D13 (io), 57 D12 (io), 58 D11 (io), 59 D10 (io), 60 D9 (io), 61 D8 (io), 62 D7 (io), 63 D6 (io), 64 D5 (io)

## MC68010P
designator U?
16-Bit/32-Bit Virtual Memory Microprocessor; Published: 17-Jul-2002; LatestRevisionDate: 06-Jun-2005; LatestRevisionNote: Stylized 3D Model Added.; DatasheetVersion: 1990; PackageReference: 754-01; Publisher: Altium Limited; PackageDescription: DIP; 64 Leads; Row Spacing 22.86 mm; Pitch 2.54 mm
footprint 754-01 (DIP; 64 Leads; Row Spacing 22.86 mm; Pitch 2.54 mm)
3D model 746-01 (DIP; 64 Leads; Row Spacing 22.86 mm; Pitch 2.54 mm)
pins: 1 D4 (io), 2 D3 (io), 3 D2 (io), 4 D1 (io), 5 D0 (io), 6 ~{AS} (out), 7 ~{UDS} (out), 8 ~{LDS} (out), 9 R/~{W} (out), 10 ~{DTACK} (in), 11 ~{BG} (out), 12 ~{BGACK} (in), 13 ~{BR} (in), 14 VCC (power), 15 CLK (in), 16 GND (power), 17 ~{HALT} (io), 18 ~{RS}T (io), 19 ~{VMA} (out), 20 E (out), 21 ~{VPA} (in), 22 ~{BERR} (in), 23 ~{IPL}2 (in), 24 ~{IPL}1 (in), 25 ~{IPL}0 (in), 26 FC2 (out), 27 FC1 (out), 28 FC0 (out), 29 A1 (hiz), 30 A2 (hiz), 31 A3 (hiz), 32 A4 (hiz), 33 A5 (hiz), 34 A6 (hiz), 35 A7 (hiz), 36 A8 (hiz), 37 A9 (hiz), 38 A10 (hiz), 39 A11 (hiz), 40 A12 (hiz), 41 A13 (hiz), 42 A14 (hiz), 43 A15 (hiz), 44 A16 (hiz), 45 A17 (hiz), 46 A18 (hiz), 47 A19 (hiz), 48 A20 (hiz), 49 VCC (power), 50 A21 (hiz), 51 A22 (hiz), 52 A23 (hiz), 53 GND (power), 54 D15 (io), 55 D14 (io), 56 D13 (io), 57 D12 (io), 58 D11 (io), 59 D10 (io), 60 D9 (io), 61 D8 (io), 62 D7 (io), 63 D6 (io), 64 D5 (io)

## MC68010R
designator U?
16-Bit/32-Bit Virtual Memory Microprocessor; Published: 17-Jul-2002; LatestRevisionDate: 06-Jun-2005; LatestRevisionNote: Stylized 3D Model Added.; DatasheetVersion: 1990; PackageReference: 765A-05; Publisher: Altium Limited; PackageDescription: 68-Pin Pin Grid Array 2.54 mm Pitch
footprint 765A-05 (PGA, 68-Leads, Body 27x27mm, Pitch 2.54mm)
3D model MC68010-765A-05 (68-Pin Pin Grid Array 2.54 mm Pitch)
pins: A1 NC, A2 ~{AS} (out), A3 D1 (io), A4 D2 (io), A5 D4 (io), A6 D5 (io), A7 D7 (io), A8 D8 (io), A9 D10 (io), A10 D12 (io), B1 ~{DTACK} (in), B2 ~{LDS} (out), B3 ~{UDS} (out), B4 D0 (io), B5 D3 (io), B6 D6 (io), B7 D9 (io), B8 D11 (io), B9 D14 (io), B10 D15 (io), C1 ~{BGACK} (in), C2 ~{BG} (out), C3 R/~{W} (out), C8 D13 (io), C9 A23 (hiz), C10 A22 (hiz), D1 ~{BR} (in), D2 VCC (power), D9 GND (power), D10 A21 (hiz), E1 CLK (in), E2 GND (power), E9 VCC (power), E10 A20 (hiz), F1 ~{HALT} (io), F2 ~{RST} (io), F9 A18 (hiz), F10 A19 (hiz), G1 ~{VMA} (out), G2 ~{VPA} (in), G9 A15 (hiz), G10 A17 (hiz), H1 E (out), H2 ~{IPL}2 (in), H3 ~{IPL}1 (in), H8 A13 (hiz), H9 A12 (hiz), H10 A16 (hiz), J1 ~{BERR} (in), J2 ~{IPL}0 (in), J3 FC1 (out), J4 NC, J5 A2 (hiz), J6 A5 (hiz), J7 A8 (hiz), J8 A10 (hiz), J9 A11 (hiz), J10 A14 (hiz), K1 NC, K2 FC2 (out), K3 FC0 (out), K4 A1 (hiz), K5 A3 (hiz), K6 A4 (hiz), K7 A6 (hiz), K8 A7 (hiz), K9 A9 (hiz), K10 NC

## MC68010RC
designator U?
16-Bit/32-Bit Virtual Memory Microprocessor; Published: 17-Jul-2002; LatestRevisionDate: 06-Jun-2005; LatestRevisionNote: Stylized 3D Model Added.; DatasheetVersion: 1990; PackageReference: 765A-05; Publisher: Altium Limited; PackageDescription: 68-Pin Pin Grid Array 2.54 mm Pitch
footprint 765A-05 (PGA, 68-Leads, Body 27x27mm, Pitch 2.54mm)
3D model MC68010-765A-05 (68-Pin Pin Grid Array 2.54 mm Pitch)
pins: A1 NC, A2 ~{AS} (out), A3 D1 (io), A4 D2 (io), A5 D4 (io), A6 D5 (io), A7 D7 (io), A8 D8 (io), A9 D10 (io), A10 D12 (io), B1 ~{DTACK} (in), B2 ~{LDS} (out), B3 ~{UDS} (out), B4 D0 (io), B5 D3 (io), B6 D6 (io), B7 D9 (io), B8 D11 (io), B9 D14 (io), B10 D15 (io), C1 ~{BGACK} (in), C2 ~{BG} (out), C3 R/~{W} (out), C8 D13 (io), C9 A23 (hiz), C10 A22 (hiz), D1 ~{BR} (in), D2 VCC (power), D9 GND (power), D10 A21 (hiz), E1 CLK (in), E2 GND (power), E9 VCC (power), E10 A20 (hiz), F1 ~{HALT} (io), F2 ~{RST} (io), F9 A18 (hiz), F10 A19 (hiz), G1 ~{VMA} (out), G2 ~{VPA} (in), G9 A15 (hiz), G10 A17 (hiz), H1 E (out), H2 ~{IPL}2 (in), H3 ~{IPL}1 (in), H8 A13 (hiz), H9 A12 (hiz), H10 A16 (hiz), J1 ~{BERR} (in), J2 ~{IPL}0 (in), J3 FC1 (out), J4 NC, J5 A2 (hiz), J6 A5 (hiz), J7 A8 (hiz), J8 A10 (hiz), J9 A11 (hiz), J10 A14 (hiz), K1 NC, K2 FC2 (out), K3 FC0 (out), K4 A1 (hiz), K5 A3 (hiz), K6 A4 (hiz), K7 A6 (hiz), K8 A7 (hiz), K9 A9 (hiz), K10 NC